# Altium schematic symbol library MicroBit.SCHLIB: 3 symbols
Pins are listed as number, name and electrical type; pins without a type are passive.

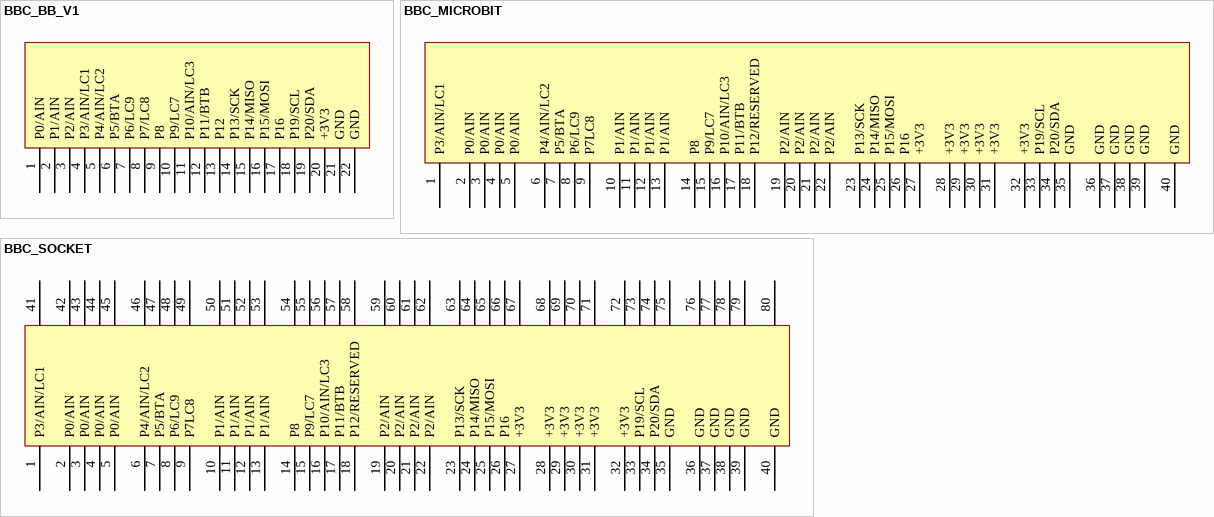
[diagram p0: symbols BBC_BB_V1 to BBC_SOCKET]

## BBC_BB_V1
designator BB?
footprint BBC_BB_V1
pins: 1 P0/AIN, 2 P1/AIN, 3 P2/AIN, 4 P3/AIN/LC1, 5 P4/AIN/LC2, 6 P5/BTA, 7 P6/LC9, 8 P7/LC8, 9 P8, 10 P9/LC7, 11 P10/AIN/LC3, 12 P11/BTB, 13 P12, 14 P13/SCK, 15 P14/MISO, 16 P15/MOSI, 17 P16, 18 P19/SCL, 19 P20/SDA, 20 +3V3, 21 GND, 22 GND

## BBC_MICROBIT
designator MBIT?
footprint BBC_MICROBIT
pins: 1 P3/AIN/LC1, 2 P0/AIN, 3 P0/AIN, 4 P0/AIN, 5 P0/AIN, 6 P4/AIN/LC2, 7 P5/BTA, 8 P6/LC9, 9 P7LC8, 10 P1/AIN, 11 P1/AIN, 12 P1/AIN, 13 P1/AIN, 14 P8, 15 P9/LC7, 16 P10/AIN/LC3, 17 P11/BTB, 18 P12/RESERVED, 19 P2/AIN, 20 P2/AIN, 21 P2/AIN, 22 P2/AIN, 23 P13/SCK, 24 P14/MISO, 25 P15/MOSI, 26 P16, 27 +3V3, 28 +3V3, 29 +3V3, 30 +3V3, 31 +3V3, 32 +3V3, 33 P19/SCL, 34 P20/SDA, 35 GND, 36 GND, 37 GND, 38 GND, 39 GND, 40 GND

## BBC_SOCKET
designator BBC?
DeviceName: BBC_SOCKET; LibraryName: microbit; DeviceSetName: BBC_SOCKET; Package: BBC_SOCKET
footprint BBC_SK_SMD
footprint BBC_SK_DIP
footprint BBC_SK_DIP_V
pins: 1 P3/AIN/LC1, 2 P0/AIN, 3 P0/AIN, 4 P0/AIN, 5 P0/AIN, 6 P4/AIN/LC2, 7 P5/BTA, 8 P6/LC9, 9 P7LC8, 10 P1/AIN, 11 P1/AIN, 12 P1/AIN, 13 P1/AIN, 14 P8, 15 P9/LC7, 16 P10/AIN/LC3, 17 P11/BTB, 18 P12/RESERVED, 19 P2/AIN, 20 P2/AIN, 21 P2/AIN, 22 P2/AIN, 23 P13/SCK, 24 P14/MISO, 25 P15/MOSI, 26 P16, 27 +3V3, 28 +3V3, 29 +3V3, 30 +3V3, 31 +3V3, 32 +3V3, 33 P19/SCL, 34 P20/SDA, 35 GND, 36 GND, 37 GND, 38 GND, 39 GND, 40 GND, 41 P3, 42 P0, 43 P0, 44 P0, 45 P0, 46 P4, 47 P5, 48 P6, 49 P7, 50 P1, 51 P1, 52 P1, 53 P1, 54 P8, 55 P9, 56 P10, 57 P11, 58 P12, 59 P2, 60 P2, 61 P2, 62 P2, 63 P13, 64 P14, 65 P15, 66 P16, 67 +3V3, 68 +3V3, 69 +3V3, 70 +3V3, 71 +3V3, 72 +3V3, 73 P19, 74 P20, 75 GND, 76 GND, 77 GND, 78 GND, 79 GND, 80 GND